# Altium schematic symbol library CON_USBB.Schlib: 1 symbol
Pins are listed as number, name and electrical type; pins without a type are passive.

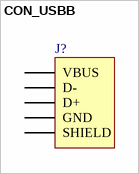
[diagram p0: symbol CON_USBB]

## CON_USBB
designator J?
pins: 1 VBUS, 2 D-, 3 D+, 4 GND, SHELL SHIELD